# EAGLE library part SSA-LXB10SRW (library Components Library)
10 Bar LED
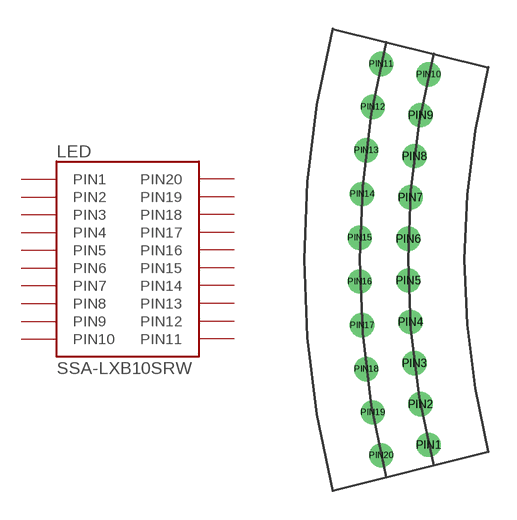
[diagram p7: symbol with the pads of SSA-LXB10SRW; footprint SSA-LXB10SRW]

Designator prefix LED

## SSA-LXB10SRW  [SSA-LXB10SRW]
PIN1  PIN1
PIN2  PIN2
PIN3  PIN3
PIN4  PIN4
PIN5  PIN5
PIN6  PIN6
PIN7  PIN7
PIN8  PIN8
PIN9  PIN9
PIN10  PIN10
PIN11  PIN11
PIN12  PIN12
PIN13  PIN13
PIN14  PIN14
PIN15  PIN15
PIN16  PIN16
PIN17  PIN17
PIN18  PIN18
PIN19  PIN19
PIN20  PIN20

## Footprint SSA-LXB10SRW (pad centres in mm)
drill 0.5 pad 1.27: PIN1 2.34,-9.7; PIN2 1.92,-7.57; PIN3 1.6,-5.42; PIN4 1.39,-3.26; PIN5 1.28,-1.09; PIN6 1.28,1.09; PIN7 1.39,3.26; PIN8 1.6,5.42; PIN9 1.92,7.57; PIN10 2.34,9.7; PIN11 -0.14,10.25; PIN12 -0.58,8; PIN13 -0.92,5.73; PIN14 -1.14,3.44; PIN15 -1.26,1.15; PIN16 -1.26,-1.15; PIN17 -1.14,-3.44; PIN18 -0.92,-5.73; PIN19 -0.58,-8; PIN20 -0.14,-10.25